# Altium footprint library USB.PcbLib: 19 footprints (part 2 of 2)
Each footprint in its own frame and in the unit in brackets; x right, y up, seen from the top. Pads: shape width x height; smd on the part's side, far side on the other; paste and mask are expansions set on the pad; w line width, h text height; cw(c..) or ccw(c..) is an arc to the next point about the centre after c.
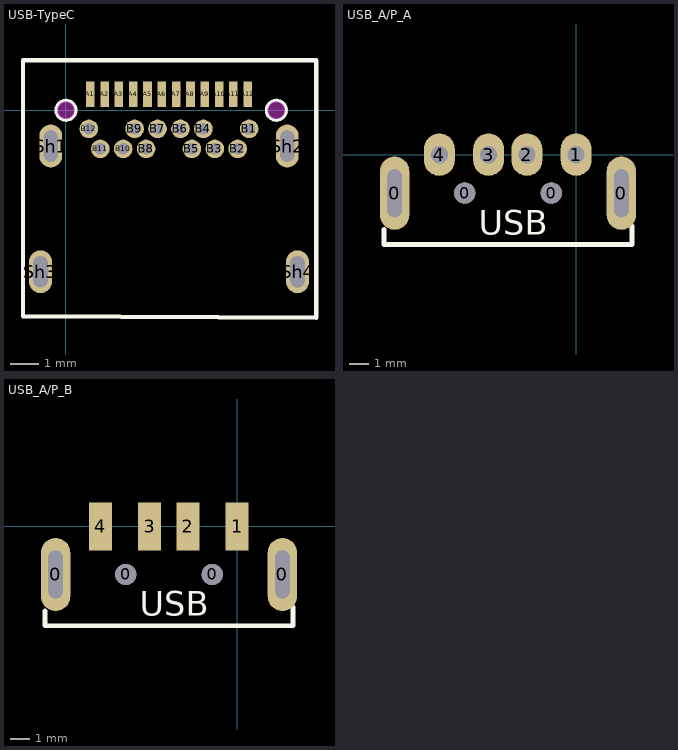
[diagram p1: the footprints below, top view; thin cyan lines are the x and y axes]

## USB-TypeC [mm]
pads (28):
  rect 0.3x0.9 smd: A1(0.85,0.56) A2(1.35,0.56) A3(1.85,0.56) A4(2.35,0.56) A5(2.85,0.56) A6(3.35,0.56) A7(3.85,0.56) A8(4.35,0.56) A9(4.85,0.56) A10(5.35,0.56) A11(5.85,0.56) A12(6.35,0.56)
  round 0.65 hole 0.4: B1(6.4,-0.65) B2(6,-1.35) B3(5.2,-1.35) B4(4.8,-0.65) B5(4.4,-1.35) B6(4,-0.65) B7(3.2,-0.65) B8(2.8,-1.35) B9(2.4,-0.65) B10(2,-1.35) B11(1.2,-1.35) B12(0.8,-0.65)
  oval 0.8x1.5 hole 1.1 slot 0.5 at 0 deg: Sh1(-0.53,-1.25) Sh2(7.73,-1.25) Sh3(-0.89,-5.64) Sh4(8.09,-5.64)
Top Overlay:
  circle w0.1: c0,0 r0.354
  circle w0.1: c7.35,0 r0.354
  lines w0.152: -1.5,-7.2 8.75,-7.25 8.75,1.75 -1.5,1.75 -1.5,-7.2
Keep-Out Layer:
  board cut-out: 7.025,0 7.025,-0.065 7.074,-0.184 7.166,-0.276 7.285,-0.325 7.35,-0.325 7.415,-0.325 7.534,-0.276 7.626,-0.184 7.675,-0.065 7.675,0 7.675,0.065 7.626,0.184 7.534,0.276 7.415,0.325 7.35,0.325 7.285,0.325 7.166,0.276 7.074,0.184 7.025,0.065
  board cut-out: 0,-0.325 -0.065,-0.325 -0.184,-0.275 -0.276,-0.184 -0.325,-0.064 -0.325,0 -0.325,0.065 -0.276,0.185 -0.184,0.276 -0.065,0.325 0,0.325 0.065,0.325 0.184,0.276 0.276,0.185 0.325,0.065 0.325,0 0.325,-0.064 0.276,-0.184 0.184,-0.275 0.065,-0.325
Mechanical 1:
  circle w0.1: c7.35,0 r0.325
  circle w0.1: c0,0 r0.325
Mechanical 29:
  text "'.Designator'" at -0.75,-4.5 h1
3D body "USB-C.stp": height 3.17, standoff -1.02, extent -1.225,-7.1 8.425,1.6

## USB_A/P_A [mm]
height 1.75
pads (8):
  oval 1.524x3.81 hole 0.762 slot 2.5 at 90 deg: 0(-9.443,-2) 0(2.357,-2)
  round 1.1 hole 1.1: 0(-5.793,-2) 0(-1.293,-2)
  oval 1.6x2.2 hole 0.9: 1(0,0) 2(-2.556,0) 3(-4.556,0) 4(-7.112,0)
Top Overlay:
  lines w0.254: -9.993,-3.9 -9.993,-4.667 2.907,-4.667 2.907,-3.7
  text "USB" at -5.067,-4.159 h1.27
3D body "USB_A_P-A.STEP": height 3.25, standoff -2.52, extent -10.033,-19.909 2.914,0.097

## USB_A/P_B [mm]
height 1.75
pads (8):
  oval 1.524x3.81 hole 0.762 slot 2.5 at 90 deg: 0(-9.443,-2.508) 0(2.357,-2.508)
  round 1.1 hole 1.1: 0(-5.793,-2.508) 0(-1.293,-2.508)
  rect 1.2x2.5 smd: 1(0,0) 2(-2.556,0) 3(-4.556,0) 4(-7.112,0)
Top Overlay:
  lines w0.254: -9.993,-4.408 -9.993,-5.175 2.907,-5.175 2.907,-4.208
  text "USB" at -5.067,-4.667 h1.27
3D body "USB_A_P-B.STEP": height 3.25, standoff -2.52, extent -9.906,-20.46 3.041,0.14